# Altium schematic symbol library Passive.SchLib: 15 symbols
Pins are listed as number, name and electrical type; pins without a type are passive.

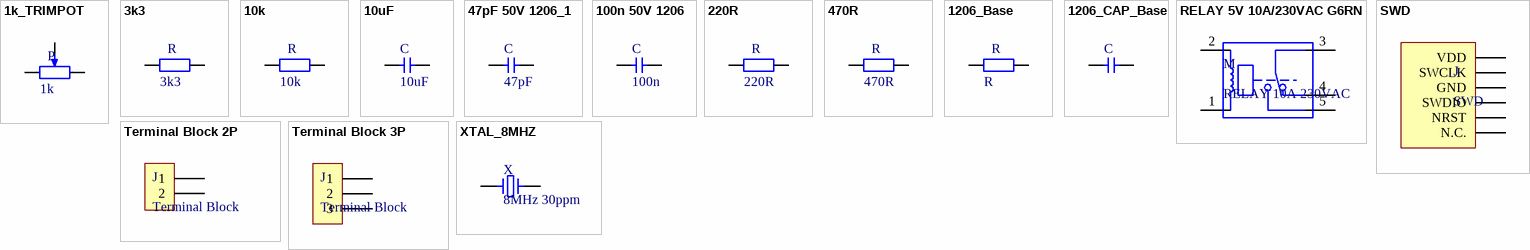
[diagram p0: symbols 1k_TRIMPOT to XTAL_8MHZ]

## 1k_TRIMPOT
designator P, comment value 1k  (hidden comment: Resistor)
Trimmer Pot 1k; Tolerance: 5%; Power: W
footprint SMD_TRIM_POT
pins: 1, 2, 3

## 3k3
designator R
1206  3k3 5% Resistor; Power: W; Tolerance: 5%; Value: 3k3
footprint RES_1206 (Chip Resistor, 2-Leads, Body 3,20x1,60mm, IPC Medium Density)
pins: 1, 2

## 10k
designator R, comment value 10k  (hidden comment: Resistor)
1206 10k 5% Resistor; Power: 0.025W; Tolerance: 5%
footprint RES_1206 (Chip Resistor, 2-Leads, Body 3,20x1,60mm, IPC Medium Density)
pins: 1, 2

## 10uF
designator C
10uF 5% Capacitor; Tolerance: %; Voltage: V; Value: 10uF
footprint CAP_1206
pins: 1, 2

## 47pF 50V 1206_1
designator C, comment value 47pF  (hidden comment: Capacitor)
1206  47pF 50V Capacitor; Tolerance: %; Voltage: 50V
footprint CAP_1206
pins: 1, 2

## 100n 50V 1206
designator C, comment value 100n  (hidden comment: Capacitor)
1206  100n 50V Capacitor; Tolerance: %; Voltage: 50V
footprint CAP_1206
pins: 1, 2

## 220R
designator R, comment value 220R  (hidden comment: Resistor)
1206  220R 5% Resistor; Power: W; Tolerance: 5%
footprint RES_1206 (Chip Resistor, 2-Leads, Body 3,20x1,60mm, IPC Medium Density)
pins: 1, 2

## 470R
designator R, comment value 470R  (hidden comment: Resistor)
1206  470R 5% Resistor; Power: W; Tolerance: 5%
footprint RES_1206 (Chip Resistor, 2-Leads, Body 3,20x1,60mm, IPC Medium Density)
pins: 1, 2

## 1206_Base
designator R, comment value R  (hidden comment: Resistor)
1206  xR 5% Resistor; Tolerance: %; Power: W
footprint RES_1206 (Chip Resistor, 2-Leads, Body 3,20x1,60mm, IPC Medium Density)
pins: 1, 2

## 1206_CAP_Base
designator C, comment Capacitor  (value not drawn)
1206  xF 5% Capacitor; Tolerance: %; Voltage: V
footprint CAP_1206
pins: 1, 2

## RELAY 5V 10A/230VAC G6RN
designator M, comment RELAY 10A 230VAC
MECH 5V 1xMORSE 10A/250AC S7001E5W 5DC
footprint Relay_10A
pins: 1, 2, 3, 4, 5

## SWD
designator J
STM32 SWD CONNECTOR
footprint PIN_HEADER_6P
pins: 1 VDD, 2 SWCLK, 3 GND, 4 SWDIO, 5 NRST, 6 N.C.

## Terminal Block 2P
designator J, comment Terminal Block
5.08mm Terminal Blocks 2P
footprint TERMINAL_BLOCK_2P
pins: 1, 2

## Terminal Block 3P
designator J, comment Terminal Block
5.08mm Terminal Blocks 3P
footprint TERMINAL_BLOCK_3P
pins: 1, 2, 3

## XTAL_8MHZ
designator X, comment 8MHz 30ppm
8.000MHz QUARZ HC49 30ppm 20pF LOW PROFILE
footprint HC49
pins: 1, 2